# Altium footprint library LED_5700100132F.PcbLib: 1 footprints
Each footprint in its own frame and in the unit in brackets; x right, y up, seen from the top. Pads: shape width x height; smd on the part's side, far side on the other; paste and mask are expansions set on the pad; w line width, h text height; cw(c..) or ccw(c..) is an arc to the next point about the centre after c.
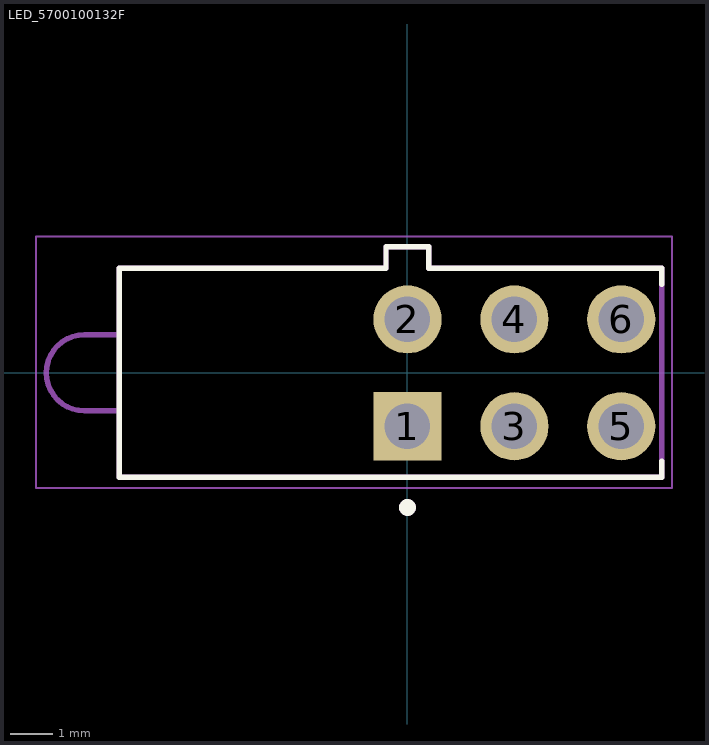
[diagram p0: the footprint, top view; thin cyan lines are the x and y axes]

## LED_5700100132F [mm]
height 10.42
pads (6):
  rect 1.62x1.62 / inner round 1.62 / far side rect 1.62x1.62 hole 1.08: 1(0,-1.27)
  round 1.62 hole 1.08: 2(0,1.27) 3(2.54,-1.27) 4(2.54,1.27) 5(5.08,-1.27) 6(5.08,1.27)
Top Overlay:
  circle w0.2: c0,-3.2 r0.1
  lines w0.127: 6.04,-2.1 6.04,-2.485 -6.85,-2.485 -6.85,2.485 -0.508,2.485 -0.508,2.993 0.508,2.993 0.508,2.485 6.04,2.485 6.04,2.1
Assembly Top:
  circle w0.2: c0,-3.2 r0.1
  lines w0.127: -6.85,-0.905 -6.85,-2.485 6.04,-2.485 6.04,2.485 0.508,2.485 0.508,2.993 -0.508,2.993 -0.508,2.485 -6.85,2.485 -6.85,0.905 ; -6.85,-0.905 -6.85,0.905 ; -6.85,-0.905 -7.675,-0.905 cw(c-7.675,0) -8.58,0 cw(c-7.675,0) -7.675,0.905 -6.85,0.905
Courtyard Top:
  lines w0.05: -8.83,-2.735 -8.83,3.243 6.29,3.243 6.29,-2.735 -8.83,-2.735
3D body "step_temp.STEP": height 10.41, standoff -3.45, extent -8.179,-2.489 6.452,2.997